# Altium schematic symbol library 1N4740A.SchLib: 1 symbol
Pins are listed as number, name and electrical type; pins without a type are passive.

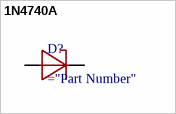
[diagram p0: symbol 1N4740A]

## 1N4740A
designator D?
Diode,Zener,Vr 10V,If 200mA,Pkg DO-41,Vf 1.2V,Tj +175C,Cs 454mA,Pd 1.3W,Ir 25mA | Vishay / Small Signal & Opto Products (SSP) 1N4740A-TR; MF: Vishay Semiconductor; SnapEDA_Link: https://www.snapeda.com/parts/1N4740A-TR/Vishay/view-part/?ref=snap; Package: DO-41 Vishay Semiconductor; Value: *; MP: 1N4740A-TR; Check_prices: https://www.snapeda.com/parts/1N4740A-TR/Vishay/view-part/?ref=eda
footprint DIOAD1060W70L435D230
pins: A, C K